# Altium footprint library CONNECTOR_BOARD2BOARD.PcbLib: 2 footprints
Each footprint in its own frame and in the unit in brackets; x right, y up, seen from the top. Pads: shape width x height; smd on the part's side, far side on the other; paste and mask are expansions set on the pad; w line width, h text height; cw(c..) or ccw(c..) is an arc to the next point about the centre after c.
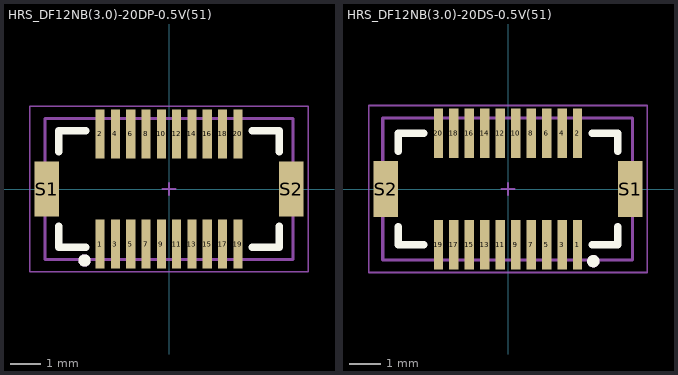
[diagram p0: the footprints below, top view; thin cyan lines are the x and y axes]

## HRS_DF12NB(3.0)-20DP-0.5V(51) [mm]
pads (22):
  rect 0.3x1.6 smd paste-2 mask+0.05: 1(-2.25,-1.8) 2(-2.25,1.8) 3(-1.75,-1.8) 4(-1.75,1.8) 5(-1.25,-1.8) 6(-1.25,1.8) 7(-0.75,-1.8) 8(-0.75,1.8) 9(-0.25,-1.8) 10(-0.25,1.8) 11(0.25,-1.8) 12(0.25,1.8) 13(0.75,-1.8) 14(0.75,1.8) 15(1.25,-1.8) 16(1.25,1.8) 17(1.75,-1.8) 18(1.75,1.8) 19(2.25,-1.8) 20(2.25,1.8)
  rect 0.8x1.8 smd: S1(-4,0) S2(4,0)
Top Overlay:
  circle w0.2: c-2.758,-2.334 r0.1
  lines w0.25: -3.6,-1.22 -3.6,-1.9 -2.72,-1.9 ; -3.6,1.22 -3.6,1.9 -2.72,1.9 ; 2.72,-1.9 3.6,-1.9 3.6,-1.22 ; 2.72,1.9 3.6,1.9 3.6,1.22
Top Paste:
  region: -2.11,1.4 -2.39,1.4 -2.39,2.6 -2.11,2.6
  region: -2.11,-2.6 -2.39,-2.6 -2.39,-1.4 -2.11,-1.4
  region: -1.61,1.4 -1.89,1.4 -1.89,2.6 -1.61,2.6
  region: -1.61,-2.6 -1.89,-2.6 -1.89,-1.4 -1.61,-1.4
  region: -1.11,1.4 -1.39,1.4 -1.39,2.6 -1.11,2.6
  region: -1.11,-2.6 -1.39,-2.6 -1.39,-1.4 -1.11,-1.4
  region: -0.61,1.4 -0.89,1.4 -0.89,2.6 -0.61,2.6
  region: -0.61,-2.6 -0.89,-2.6 -0.89,-1.4 -0.61,-1.4
  region: -0.11,1.4 -0.39,1.4 -0.39,2.6 -0.11,2.6
  region: -0.11,-2.6 -0.39,-2.6 -0.39,-1.4 -0.11,-1.4
  region: 0.39,1.4 0.11,1.4 0.11,2.6 0.39,2.6
  region: 0.39,-2.6 0.11,-2.6 0.11,-1.4 0.39,-1.4
  region: 0.89,1.4 0.61,1.4 0.61,2.6 0.89,2.6
  region: 0.89,-2.6 0.61,-2.6 0.61,-1.4 0.89,-1.4
  region: 1.39,1.4 1.11,1.4 1.11,2.6 1.39,2.6
  region: 1.39,-2.6 1.11,-2.6 1.11,-1.4 1.39,-1.4
  region: 1.89,1.4 1.61,1.4 1.61,2.6 1.89,2.6
  region: 1.89,-2.6 1.61,-2.6 1.61,-1.4 1.89,-1.4
  region: 2.39,1.4 2.11,1.4 2.11,2.6 2.39,2.6
  region: 2.39,-2.6 2.11,-2.6 2.11,-1.4 2.39,-1.4
Mechanical 13:
  circle w0.2: c-2.758,-2.334 r0.1
  lines w0.1: -4.05,-2.3 -4.05,2.3 4.05,2.3 4.05,-2.3 -4.05,-2.3
Mechanical 15:
  lines w0.05: -0.225,0 0.225,0 ; 0,-0.2 0,0.2 ; -4.55,-2.7 -4.55,2.7 4.55,2.7 4.55,-2.7 -4.55,-2.7
3D body "DF12NB(3.0)-20DP-0.5V(51).STEP": height 2.3, standoff 0, extent -4.05,-2.3 4.05,2.3

## HRS_DF12NB(3.0)-20DS-0.5V(51) [mm]
pads (22):
  rect 0.3x1.6 smd paste-2 mask+0.05: 1(2.25,-1.8) 2(2.25,1.8) 3(1.75,-1.8) 4(1.75,1.8) 5(1.25,-1.8) 6(1.25,1.8) 7(0.75,-1.8) 8(0.75,1.8) 9(0.25,-1.8) 10(0.25,1.8) 11(-0.25,-1.8) 12(-0.25,1.8) 13(-0.75,-1.8) 14(-0.75,1.8) 15(-1.25,-1.8) 16(-1.25,1.8) 17(-1.75,-1.8) 18(-1.75,1.8) 19(-2.25,-1.8) 20(-2.25,1.8)
  rect 0.8x1.8 smd: S1(3.95,0) S2(-3.95,0)
Top Overlay:
  circle w0.2: c2.758,-2.334 r0.1
  lines w0.25: -3.55,-1.22 -3.55,-1.8 -2.72,-1.8 ; -3.55,1.22 -3.55,1.8 -2.72,1.8 ; 2.72,-1.8 3.55,-1.8 3.55,-1.22 ; 2.72,1.8 3.55,1.8 3.55,1.22
Top Paste:
  region: 2.39,1.4 2.11,1.4 2.11,2.6 2.39,2.6
  region: 2.39,-2.6 2.11,-2.6 2.11,-1.4 2.39,-1.4
  region: 1.89,1.4 1.61,1.4 1.61,2.6 1.89,2.6
  region: 1.89,-2.6 1.61,-2.6 1.61,-1.4 1.89,-1.4
  region: 1.39,1.4 1.11,1.4 1.11,2.6 1.39,2.6
  region: 1.39,-2.6 1.11,-2.6 1.11,-1.4 1.39,-1.4
  region: 0.89,1.4 0.61,1.4 0.61,2.6 0.89,2.6
  region: 0.89,-2.6 0.61,-2.6 0.61,-1.4 0.89,-1.4
  region: 0.39,1.4 0.11,1.4 0.11,2.6 0.39,2.6
  region: 0.39,-2.6 0.11,-2.6 0.11,-1.4 0.39,-1.4
  region: -0.11,1.4 -0.39,1.4 -0.39,2.6 -0.11,2.6
  region: -0.11,-2.6 -0.39,-2.6 -0.39,-1.4 -0.11,-1.4
  region: -0.61,1.4 -0.89,1.4 -0.89,2.6 -0.61,2.6
  region: -0.61,-2.6 -0.89,-2.6 -0.89,-1.4 -0.61,-1.4
  region: -1.11,1.4 -1.39,1.4 -1.39,2.6 -1.11,2.6
  region: -1.11,-2.6 -1.39,-2.6 -1.39,-1.4 -1.11,-1.4
  region: -1.61,1.4 -1.89,1.4 -1.89,2.6 -1.61,2.6
  region: -1.61,-2.6 -1.89,-2.6 -1.89,-1.4 -1.61,-1.4
  region: -2.11,1.4 -2.39,1.4 -2.39,2.6 -2.11,2.6
  region: -2.11,-2.6 -2.39,-2.6 -2.39,-1.4 -2.11,-1.4
Mechanical 13:
  circle w0.2: c2.758,-2.334 r0.1
  lines w0.1: -4.05,-2.3 -4.05,2.3 4.025,2.3 4.025,-2.3 -4.05,-2.3
Mechanical 15:
  lines w0.05: -0.225,0 0.225,0 ; 0,-0.2 0,0.2 ; -4.5,-2.7 -4.5,2.7 4.5,2.7 4.5,-2.7 -4.5,-2.7
3D body "DF12NB(3.0)-20DS-0.5V(51).STEP": height 2.2, standoff 0, extent -4.075,-2.3 4.025,2.3